# Altium schematic symbol library QUTMS_CrystalLibrary.SchLib: 3 symbols
Pins are listed as number, name and electrical type; pins without a type are passive.

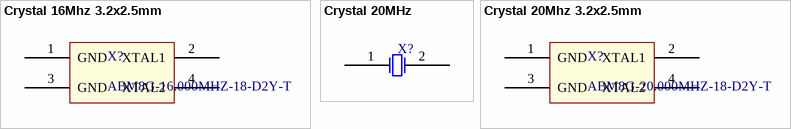
[diagram p0: symbols Crystal 16Mhz 3.2x2.5mm to Crystal 20Mhz 3.2x2.5mm]

## Crystal 16Mhz 3.2x2.5mm
designator X?, comment ABM8G-16.000MHZ-18-D2Y-T
16MHz ±20ppm Crystal 18pF 80 Ohms 4-SMD, No Lead; ComponentLink1Description: Digikey; ComponentLink1URL: https://www.digikey.com.au/product-detail/en/abracon-llc/ABM8G-16.000MHZ-18-D2Y-T/535-10267-1-ND/2218080; ComponentLink2Description: Datasheet; ComponentLink2URL: https://abracon.com/Resonators/ABM8G.pdf; ComponentLink3Description: Drawing; ComponentLink3URL: https://abracon.com/Support/PackageDrawing/Resonators/ABM8G.PDF
footprint XTAL 3.2x2.5mm
pins: 1 GND, 2 XTAL1, 3 GND, 4 XTAL2

## Crystal 20MHz
designator X?
ComponentLink1Description: Datasheet; ComponentLink1URL: http://cfd.citizen.co.jp/english/prod-tech/product/pdf/datasheet_AT/HCM49_E.pdf
footprint Crystal 20MHz
pins: 1, 2

## Crystal 20Mhz 3.2x2.5mm
designator X?, comment ABM8G-20.000MHZ-18-D2Y-T
20MHz ±20ppm Crystal 18pF 80 Ohms 4-SMD, No Lead; ComponentLink1Description: Digikey; ComponentLink1URL: https://www.digikey.com.au/product-detail/en/abracon-llc/ABM8G-20.000MHZ-18-D2Y-T/535-10271-1-ND/2218084; ComponentLink2Description: Datasheet; ComponentLink2URL: https://abracon.com/Resonators/ABM8G.pdf; ComponentLink3Description: Drawing; ComponentLink3URL: https://abracon.com/Support/PackageDrawing/Resonators/ABM8G.PDF
footprint XTAL 3.2x2.5mm
pins: 1 GND, 2 XTAL1, 3 GND, 4 XTAL2